# Altium footprint library smd-special.PCBLIB: 55 footprints (part 3 of 4)
Each footprint in its own frame and in the unit in brackets; x right, y up, seen from the top. Pads: shape width x height; smd on the part's side, far side on the other; paste and mask are expansions set on the pad; w line width, h text height; cw(c..) or ccw(c..) is an arc to the next point about the centre after c.
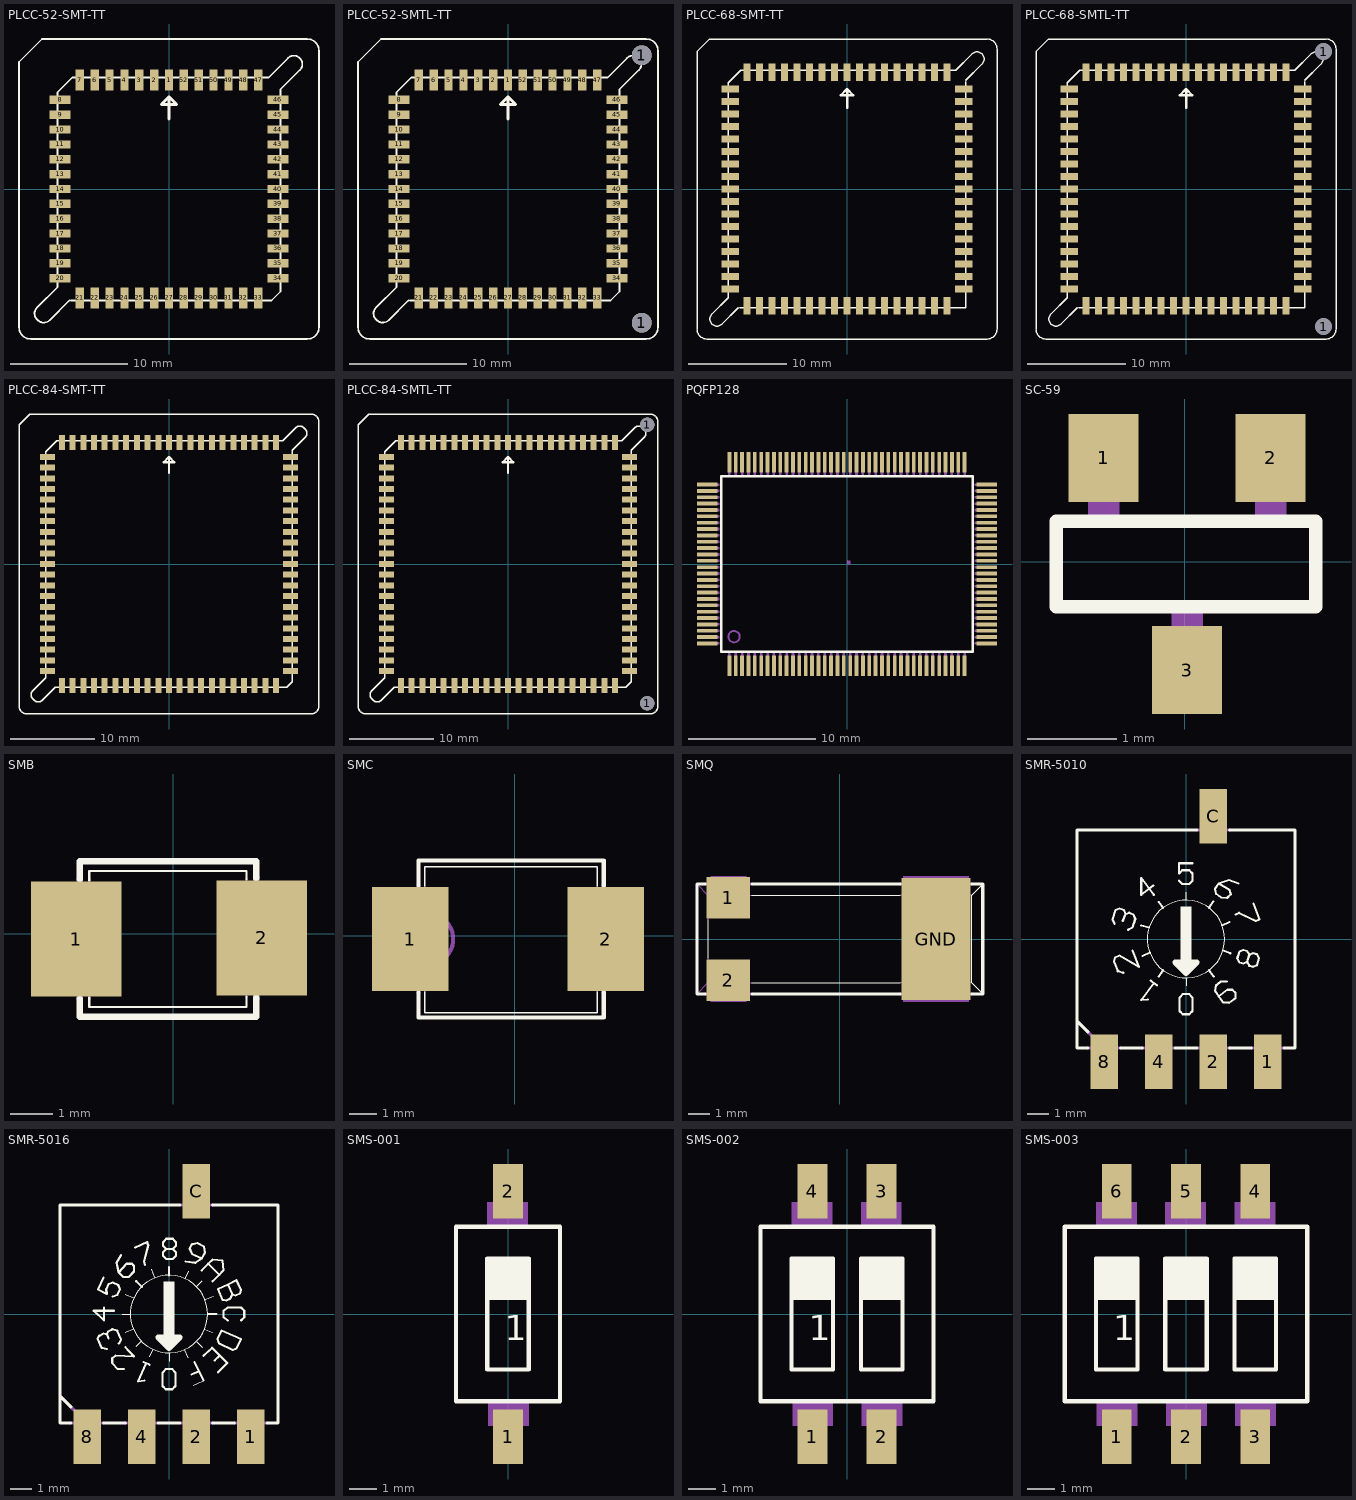
[diagram p2: the footprints below, top view; thin cyan lines are the x and y axes]

## PLCC-52-SMT-TT [mil]
pads (52):
  rect 27.95x70.08 smd: 1(0,366.54) 2(-50,366.54) 3(-100,366.54) 4(-150,366.54) 5(-200,366.54) 6(-250,366.54) 7(-300,366.54) 21(-300,-366.54) 22(-250,-366.54) 23(-200,-366.54) 24(-150,-366.54) 25(-100,-366.54) 26(-50,-366.54) 27(0,-366.54) 28(50,-366.54) 29(100,-366.54) 30(150,-366.54) 31(200,-366.54) 32(250,-366.54) 33(300,-366.54) 47(300,366.54) 48(250,366.54) 49(200,366.54) 50(150,366.54) 51(100,366.54) 52(50,366.54)
  rect 70.08x27.95 smd: 8(-366.54,300) 9(-366.54,250) 10(-366.54,200) 11(-366.54,150) 12(-366.54,100) 13(-366.54,50) 14(-366.54,0) 15(-366.54,-50) 16(-366.54,-100) 17(-366.54,-150) 18(-366.54,-200) 19(-366.54,-250) 20(-366.54,-300) 34(366.54,-300) 35(366.54,-250) 36(366.54,-200) 37(366.54,-150) 38(366.54,-100) 39(366.54,-50) 40(366.54,0) 41(366.54,50) 42(366.54,100) 43(366.54,150) 44(366.54,200) 45(366.54,250) 46(366.54,300)
Top Overlay:
  lines w6: -335,-375 -401.63,-441.63 cw(c-421.11,-422.14) -439.42,-442.74 -443.15,-439.42 cw(c-424.83,-418.82) -444.33,-399.33 -375,-330 -375,325 -325,375 335,375 400.51,440.51 cw(c420,421.02) 439.49,440.51 440.51,439.49 cw(c421.02,420) 440.51,400.51 375,335 375,-345 345,-375 -330,-375 ; -504.69,-465.32 -504.69,427.44 -427.28,504.69 465.32,504.69 cw(c465.32,465.32) 504.69,465.32 504.69,-465.32 cw(c465.32,-465.32) 465.32,-504.69 -465.32,-504.69 cw(c-465.32,-465.32) -504.69,-465.32
  lines w10: 0,235 0,310 ; 0,310 25,285 -25,285 0,310

## PLCC-52-SMTL-TT [mil]
pads (54):
  rect 27.95x70.08 smd: 1(0,366.54) 2(-50,366.54) 3(-100,366.54) 4(-150,366.54) 5(-200,366.54) 6(-250,366.54) 7(-300,366.54) 21(-300,-366.54) 22(-250,-366.54) 23(-200,-366.54) 24(-150,-366.54) 25(-100,-366.54) 26(-50,-366.54) 27(0,-366.54) 28(50,-366.54) 29(100,-366.54) 30(150,-366.54) 31(200,-366.54) 32(250,-366.54) 33(300,-366.54) 47(300,366.54) 48(250,366.54) 49(200,366.54) 50(150,366.54) 51(100,366.54) 52(50,366.54)
  round 66.93 hole 66.93: 1(450,-450) 1(450,450)
  rect 70.08x27.95 smd: 8(-366.54,300) 9(-366.54,250) 10(-366.54,200) 11(-366.54,150) 12(-366.54,100) 13(-366.54,50) 14(-366.54,0) 15(-366.54,-50) 16(-366.54,-100) 17(-366.54,-150) 18(-366.54,-200) 19(-366.54,-250) 20(-366.54,-300) 34(366.54,-300) 35(366.54,-250) 36(366.54,-200) 37(366.54,-150) 38(366.54,-100) 39(366.54,-50) 40(366.54,0) 41(366.54,50) 42(366.54,100) 43(366.54,150) 44(366.54,200) 45(366.54,250) 46(366.54,300)
Top Overlay:
  lines w6: -335,-375 -401.63,-441.63 cw(c-421.12,-422.09) -439.42,-442.74 -443.15,-439.42 cw(c-424.83,-418.82) -444.33,-399.33 -375,-330 -375,325 -325,375 335,375 400.51,440.51 cw(c420,421.02) 439.49,440.51 440.51,439.49 cw(c421.02,420) 440.51,400.51 375,335 375,-345 345,-375 -330,-375 ; -504.69,-465.32 -504.69,427.44 -427.28,504.69 465.32,504.69 cw(c465.32,465.32) 504.69,465.32 504.69,-465.32 cw(c465.32,-465.32) 465.32,-504.69 -465.32,-504.69 cw(c-465.32,-465.32) -504.69,-465.32
  lines w10: 0,235 0,310 ; 0,310 25,285 -25,285 0,310

## PLCC-68-SMT-TT [mil]
pads (68):
  rect 27.95x70.08 smd: 1(0,467.13) 2(-50,467.13) 3(-100,467.13) 4(-150,467.13) 5(-200,467.13) 6(-250,467.13) 7(-300,467.13) 8(-350,467.13) 9(-400,467.13) 27(-400,-467.13) 28(-350,-467.13) 29(-300,-467.13) 30(-250,-467.13) 31(-200,-467.13) 32(-150,-467.13) 33(-100,-467.13) 34(-50,-467.13) 35(0,-467.13) 36(50,-467.13) 37(100,-467.13) 38(150,-467.13) 39(200,-467.13) 40(250,-467.13) 41(300,-467.13) 42(350,-467.13) 43(400,-467.13) 61(400,467.13) 62(350,467.13) 63(300,467.13) 64(250,467.13) 65(200,467.13) 66(150,467.13) 67(100,467.13) 68(50,467.13)
  rect 70.08x27.95 smd: 10(-467.13,400) 11(-467.13,350) 12(-467.13,300) 13(-467.13,250) 14(-467.13,200) 15(-467.13,150) 16(-467.13,100) 17(-467.13,50) 18(-467.13,0) 19(-467.13,-50) 20(-467.13,-100) 21(-467.13,-150) 22(-467.13,-200) 23(-467.13,-250) 24(-467.13,-300) 25(-467.13,-350) 26(-467.13,-400) 44(467.13,-400) 45(467.13,-350) 46(467.13,-300) 47(467.13,-250) 48(467.13,-200) 49(467.13,-150) 50(467.13,-100) 51(467.13,-50) 52(467.13,0) 53(467.13,50) 54(467.13,100) 55(467.13,150) 56(467.13,200) 57(467.13,250) 58(467.13,300) 59(467.13,350) 60(467.13,400)
Top Overlay:
  lines w6: -435,-475 -500.51,-540.51 cw(c-520,-521.02) -539.49,-540.51 -540.51,-539.49 cw(c-521.02,-520) -540.51,-500.51 -475,-435 -475,425 -425,475 435,475 500.51,540.51 cw(c520,521.02) 539.49,540.51 540.51,539.49 cw(c521.02,520) 540.51,500.51 475,435 ; -430,-475 475,-475 475,430 ; -600,-560.63 ccw(c-560.63,-560.63) -560.63,-600 560.63,-600 ccw(c560.63,-560.63) 600,-560.63 600,560.63 ccw(c560.63,560.63) 560.63,600 -550,600 -600,550 -600,-560.63
  lines w10: 0,325 0,400 ; 0,400 25,375 -25,375 0,400

## PLCC-68-SMTL-TT [mil]
pads (70):
  rect 27.95x70.08 smd: 1(0,467.13) 2(-50,467.13) 3(-100,467.13) 4(-150,467.13) 5(-200,467.13) 6(-250,467.13) 7(-300,467.13) 8(-350,467.13) 9(-400,467.13) 27(-400,-467.13) 28(-350,-467.13) 29(-300,-467.13) 30(-250,-467.13) 31(-200,-467.13) 32(-150,-467.13) 33(-100,-467.13) 34(-50,-467.13) 35(0,-467.13) 36(50,-467.13) 37(100,-467.13) 38(150,-467.13) 39(200,-467.13) 40(250,-467.13) 41(300,-467.13) 42(350,-467.13) 43(400,-467.13) 61(400,467.13) 62(350,467.13) 63(300,467.13) 64(250,467.13) 65(200,467.13) 66(150,467.13) 67(100,467.13) 68(50,467.13)
  round 66.93 hole 66.93: 1(550,-550) 1(550,550)
  rect 70.08x27.95 smd: 10(-467.13,400) 11(-467.13,350) 12(-467.13,300) 13(-467.13,250) 14(-467.13,200) 15(-467.13,150) 16(-467.13,100) 17(-467.13,50) 18(-467.13,0) 19(-467.13,-50) 20(-467.13,-100) 21(-467.13,-150) 22(-467.13,-200) 23(-467.13,-250) 24(-467.13,-300) 25(-467.13,-350) 26(-467.13,-400) 44(467.13,-400) 45(467.13,-350) 46(467.13,-300) 47(467.13,-250) 48(467.13,-200) 49(467.13,-150) 50(467.13,-100) 51(467.13,-50) 52(467.13,0) 53(467.13,50) 54(467.13,100) 55(467.13,150) 56(467.13,200) 57(467.13,250) 58(467.13,300) 59(467.13,350) 60(467.13,400)
Top Overlay:
  lines w6: -435,-475 -500.51,-540.51 cw(c-520,-521.02) -539.49,-540.51 -540.51,-539.49 cw(c-521.02,-520) -540.51,-500.51 -475,-435 -475,425 -425,475 435,475 500.51,540.51 cw(c520,521.02) 539.49,540.51 540.51,539.49 cw(c521.02,520) 540.51,500.51 475,435 ; -430,-475 475,-475 475,430 ; -600,-560.63 ccw(c-560.63,-560.63) -560.63,-600 560.63,-600 ccw(c560.63,-560.63) 600,-560.63 600,560.63 ccw(c560.63,560.63) 560.63,600 -550,600 -600,550 -600,-560.63
  lines w10: 0,325 0,400 ; 0,400 25,375 -25,375 0,400

## PLCC-84-SMT-TT [mil]
pads (84):
  rect 27.95x70.08 smd: 1(0,566.93) 2(-50,566.93) 3(-100,566.93) 4(-150,566.93) 5(-200,566.93) 6(-250,566.93) 7(-300,566.93) 8(-350,566.93) 9(-400,566.93) 10(-450,566.93) 11(-500,566.93) 33(-500,-566.93) 34(-450,-566.93) 35(-400,-566.93) 36(-350,-566.93) 37(-300,-566.93) 38(-250,-566.93) 39(-200,-566.93) 40(-150,-566.93) 41(-100,-566.93) 42(-50,-566.93) 43(0,-566.93) 44(50,-566.93) 45(100,-566.93) 46(150,-566.93) 47(200,-566.93) 48(250,-566.93) 49(300,-566.93) 50(350,-566.93) 51(400,-566.93) 52(450,-566.93) 53(500,-566.93) 75(500,566.93) 76(450,566.93) 77(400,566.93) 78(350,566.93) 79(300,566.93) 80(250,566.93) 81(200,566.93) 82(150,566.93) 83(100,566.93) 84(50,566.93)
  rect 70.08x27.95 smd: 12(-566.93,500) 13(-566.93,450) 14(-566.93,400) 15(-566.93,350) 16(-566.93,300) 17(-566.93,250) 18(-566.93,200) 19(-566.93,150) 20(-566.93,100) 21(-566.93,50) 22(-566.93,0) 23(-566.93,-50) 24(-566.93,-100) 25(-566.93,-150) 26(-566.93,-200) 27(-566.93,-250) 28(-566.93,-300) 29(-566.93,-350) 30(-566.93,-400) 31(-566.93,-450) 32(-566.93,-500) 54(566.93,-500) 55(566.93,-450) 56(566.93,-400) 57(566.93,-350) 58(566.93,-300) 59(566.93,-250) 60(566.93,-200) 61(566.93,-150) 62(566.93,-100) 63(566.93,-50) 64(566.93,0) 65(566.93,50) 66(566.93,100) 67(566.93,150) 68(566.93,200) 69(566.93,250) 70(566.93,300) 71(566.93,350) 72(566.93,400) 73(566.93,450) 74(566.93,500)
Top Overlay:
  lines w6: -700,-660.63 ccw(c-660.63,-660.63) -660.63,-700 660.63,-700 ccw(c660.63,-660.63) 700,-660.63 700,660.63 ccw(c660.63,660.63) 660.63,700 -650,700 -700,650 -700,-660.63 ; -635.51,-629.49 cw(c-616.02,-610) -635.51,-590.51 -575,-530 -575,525 -525,575 530,575 590.51,635.51 cw(c610,616.02) 629.49,635.51 635.51,629.49 cw(c616.02,610) 635.51,590.51 575,530 575,-550 550,-575 -530,-575 -590.51,-635.51 cw(c-610,-616.02) -629.49,-635.51 -635.51,-629.49
  lines w10: 0,425 0,500 ; 0,500 25,475 -25,475 0,500

## PLCC-84-SMTL-TT [mil]
pads (86):
  rect 27.95x70.08 smd: 1(0,566.93) 2(-50,566.93) 3(-100,566.93) 4(-150,566.93) 5(-200,566.93) 6(-250,566.93) 7(-300,566.93) 8(-350,566.93) 9(-400,566.93) 10(-450,566.93) 11(-500,566.93) 33(-500,-566.93) 34(-450,-566.93) 35(-400,-566.93) 36(-350,-566.93) 37(-300,-566.93) 38(-250,-566.93) 39(-200,-566.93) 40(-150,-566.93) 41(-100,-566.93) 42(-50,-566.93) 43(0,-566.93) 44(50,-566.93) 45(100,-566.93) 46(150,-566.93) 47(200,-566.93) 48(250,-566.93) 49(300,-566.93) 50(350,-566.93) 51(400,-566.93) 52(450,-566.93) 53(500,-566.93) 75(500,566.93) 76(450,566.93) 77(400,566.93) 78(350,566.93) 79(300,566.93) 80(250,566.93) 81(200,566.93) 82(150,566.93) 83(100,566.93) 84(50,566.93)
  round 66.93 hole 66.93: 1(650,-650) 1(650,650)
  rect 70.08x27.95 smd: 12(-566.93,500) 13(-566.93,450) 14(-566.93,400) 15(-566.93,350) 16(-566.93,300) 17(-566.93,250) 18(-566.93,200) 19(-566.93,150) 20(-566.93,100) 21(-566.93,50) 22(-566.93,0) 23(-566.93,-50) 24(-566.93,-100) 25(-566.93,-150) 26(-566.93,-200) 27(-566.93,-250) 28(-566.93,-300) 29(-566.93,-350) 30(-566.93,-400) 31(-566.93,-450) 32(-566.93,-500) 54(566.93,-500) 55(566.93,-450) 56(566.93,-400) 57(566.93,-350) 58(566.93,-300) 59(566.93,-250) 60(566.93,-200) 61(566.93,-150) 62(566.93,-100) 63(566.93,-50) 64(566.93,0) 65(566.93,50) 66(566.93,100) 67(566.93,150) 68(566.93,200) 69(566.93,250) 70(566.93,300) 71(566.93,350) 72(566.93,400) 73(566.93,450) 74(566.93,500)
Top Overlay:
  lines w6: -700,-660.63 ccw(c-660.63,-660.63) -660.63,-700 660.63,-700 ccw(c660.63,-660.63) 700,-660.63 700,660.63 ccw(c660.63,660.63) 660.63,700 -650,700 -700,650 -700,-660.63 ; -635.51,-629.49 cw(c-616.02,-610) -635.51,-590.51 -575,-530 -575,525 -525,575 530,575 590.51,635.51 cw(c610,616.02) 629.49,635.51 635.51,629.49 cw(c616.02,610) 635.51,590.51 575,530 575,-550 550,-575 -530,-575 -590.51,-635.51 cw(c-610,-616.02) -629.49,-635.51 -635.51,-629.49
  lines w10: 0,425 0,500 ; 0,500 25,475 -25,475 0,500

## PQFP128 [mm]
pads (128):
  rect 0.3x1.6 smd: 1(-9.25,-8) 2(-8.75,-8) 3(-8.25,-8) 4(-7.75,-8) 5(-7.25,-8) 6(-6.75,-8) 7(-6.25,-8) 8(-5.75,-8) 9(-5.25,-8) 10(-4.75,-8) 11(-4.25,-8) 12(-3.75,-8) 13(-3.25,-8) 14(-2.75,-8) 15(-2.25,-8) 16(-1.75,-8) 17(-1.25,-8) 18(-0.75,-8) 19(-0.25,-8) 20(0.25,-8) 21(0.75,-8) 22(1.25,-8) 23(1.75,-8) 24(2.25,-8) 25(2.75,-8) 26(3.25,-8) 27(3.75,-8) 28(4.25,-8) 29(4.75,-8) 30(5.25,-8) 31(5.75,-8) 32(6.25,-8) 33(6.75,-8) 34(7.25,-8) 35(7.75,-8) 36(8.25,-8) 37(8.75,-8) 38(9.25,-8) 65(9.25,8) 66(8.75,8) 67(8.25,8) 68(7.75,8) 69(7.25,8) 70(6.75,8) 71(6.25,8) 72(5.75,8) 73(5.25,8) 74(4.75,8) 75(4.25,8) 76(3.75,8) 77(3.25,8) 78(2.75,8) 79(2.25,8) 80(1.75,8) 81(1.25,8) 82(0.75,8) 83(0.25,8) 84(-0.25,8) 85(-0.75,8) 86(-1.25,8) 87(-1.75,8) 88(-2.25,8) 89(-2.75,8) 90(-3.25,8) 91(-3.75,8) 92(-4.25,8) 93(-4.75,8) 94(-5.25,8) 95(-5.75,8) 96(-6.25,8) 97(-6.75,8) 98(-7.25,8) 99(-7.75,8) 100(-8.25,8) 101(-8.75,8) 102(-9.25,8)
  rect 1.6x0.3 smd: 39(11,-6.25) 40(11,-5.75) 41(11,-5.25) 42(11,-4.75) 43(11,-4.25) 44(11,-3.75) 45(11,-3.25) 46(11,-2.75) 47(11,-2.25) 48(11,-1.75) 49(11,-1.25) 50(11,-0.75) 51(11,-0.25) 52(11,0.25) 53(11,0.75) 54(11,1.25) 55(11,1.75) 56(11,2.25) 57(11,2.75) 58(11,3.25) 59(11,3.75) 60(11,4.25) 61(11,4.75) 62(11,5.25) 63(11,5.75) 64(11,6.25) 103(-11,6.25) 104(-11,5.75) 105(-11,5.25) 106(-11,4.75) 107(-11,4.25) 108(-11,3.75) 109(-11,3.25) 110(-11,2.75) 111(-11,2.25) 112(-11,1.75) 113(-11,1.25) 114(-11,0.75) 115(-11,0.25) 116(-11,-0.25) 117(-11,-0.75) 118(-11,-1.25) 119(-11,-1.75) 120(-11,-2.25) 121(-11,-2.75) 122(-11,-3.25) 123(-11,-3.75) 124(-11,-4.25) 125(-11,-4.75) 126(-11,-5.25) 127(-11,-5.75) 128(-11,-6.25)
Top Overlay:
  lines w0.203: -9.906,-6.909 9.906,-6.909 9.906,6.909 -9.906,6.909 -9.906,-6.909
Mechanical 16:
  circle w0.152: c-8.89,-5.715 r0.449
  rectangle: -9.352,-8.611 -9.148,-7.01
  rectangle: -8.852,-8.611 -8.648,-7.01
  rectangle: -8.352,-8.611 -8.148,-7.01
  rectangle: -7.852,-8.611 -7.648,-7.01
  rectangle: -7.352,-8.611 -7.148,-7.01
  rectangle: -6.852,-8.611 -6.648,-7.01
  rectangle: -6.352,-8.611 -6.148,-7.01
  rectangle: -5.852,-8.611 -5.648,-7.01
  rectangle: -5.352,-8.611 -5.148,-7.01
  rectangle: -4.852,-8.611 -4.648,-7.01
  rectangle: -4.352,-8.611 -4.148,-7.01
  rectangle: -3.852,-8.611 -3.648,-7.01
  rectangle: -3.352,-8.611 -3.148,-7.01
  rectangle: -2.852,-8.611 -2.648,-7.01
  rectangle: -2.352,-8.611 -2.148,-7.01
  rectangle: -1.852,-8.611 -1.648,-7.01
  rectangle: -1.352,-8.611 -1.148,-7.01
  rectangle: -0.852,-8.611 -0.648,-7.01
  rectangle: -0.352,-8.611 -0.148,-7.01
  rectangle: 0.148,-8.611 0.352,-7.01
  rectangle: 0.648,-8.611 0.852,-7.01
  rectangle: 1.148,-8.611 1.352,-7.01
  rectangle: 1.648,-8.611 1.852,-7.01
  rectangle: 2.148,-8.611 2.352,-7.01
  rectangle: 2.648,-8.611 2.852,-7.01
  rectangle: 3.148,-8.611 3.352,-7.01
  rectangle: 3.648,-8.611 3.852,-7.01
  rectangle: 4.148,-8.611 4.352,-7.01
  rectangle: 4.648,-8.611 4.852,-7.01
  rectangle: 5.148,-8.611 5.352,-7.01
  rectangle: 5.648,-8.611 5.852,-7.01
  rectangle: 6.148,-8.611 6.352,-7.01
  rectangle: 6.648,-8.611 6.852,-7.01
  rectangle: 7.148,-8.611 7.352,-7.01
  rectangle: 7.648,-8.611 7.852,-7.01
  rectangle: 8.148,-8.611 8.352,-7.01
  rectangle: 8.648,-8.611 8.852,-7.01
  rectangle: 9.148,-8.611 9.352,-7.01
  rectangle: 10.01,-6.352 11.611,-6.148
  rectangle: 10.01,-5.852 11.611,-5.648
  rectangle: 10.01,-5.352 11.611,-5.148
  rectangle: 10.01,-4.852 11.611,-4.648
  rectangle: 10.01,-4.352 11.611,-4.148
  rectangle: 10.01,-3.852 11.611,-3.648
  rectangle: 10.01,-3.352 11.611,-3.148
  rectangle: 10.01,-2.852 11.611,-2.648
  rectangle: 10.01,-2.352 11.611,-2.148
  rectangle: 10.01,-1.852 11.611,-1.648
  rectangle: 10.01,-1.352 11.611,-1.148
  rectangle: 10.01,-0.852 11.611,-0.648
  rectangle: 10.01,-0.352 11.611,-0.148
  rectangle: 10.01,0.148 11.611,0.352
  rectangle: 10.01,0.648 11.611,0.852
  rectangle: 10.01,1.148 11.611,1.352
  rectangle: 10.01,1.648 11.611,1.852
  rectangle: 10.01,2.148 11.611,2.352
  rectangle: 10.01,2.648 11.611,2.852
  rectangle: 10.01,3.148 11.611,3.352
  rectangle: 10.01,3.648 11.611,3.852
  rectangle: 10.01,4.148 11.611,4.352
  rectangle: 10.01,4.648 11.611,4.852
  rectangle: 10.01,5.148 11.611,5.352
  rectangle: 10.01,5.648 11.611,5.852
  rectangle: 10.01,6.148 11.611,6.352
  rectangle: 9.148,7.01 9.352,8.611
  rectangle: 8.648,7.01 8.852,8.611
  rectangle: 8.148,7.01 8.352,8.611
  rectangle: 7.648,7.01 7.852,8.611
  rectangle: 7.148,7.01 7.352,8.611
  rectangle: 6.648,7.01 6.852,8.611
  rectangle: 6.148,7.01 6.352,8.611
  rectangle: 5.648,7.01 5.852,8.611
  rectangle: 5.148,7.01 5.352,8.611
  rectangle: 4.648,7.01 4.852,8.611
  rectangle: 4.148,7.01 4.352,8.611
  rectangle: 3.648,7.01 3.852,8.611
  rectangle: 3.148,7.01 3.352,8.611
  rectangle: 2.648,7.01 2.852,8.611
  rectangle: 2.148,7.01 2.352,8.611
  rectangle: 1.648,7.01 1.852,8.611
  rectangle: 1.148,7.01 1.352,8.611
  rectangle: 0.648,7.01 0.852,8.611
  rectangle: 0.148,7.01 0.352,8.611
  rectangle: -0.352,7.01 -0.148,8.611
  rectangle: -0.852,7.01 -0.648,8.611
  rectangle: -1.352,7.01 -1.148,8.611
  rectangle: -1.852,7.01 -1.648,8.611
  rectangle: -2.352,7.01 -2.148,8.611
  rectangle: -2.852,7.01 -2.648,8.611
  rectangle: -3.352,7.01 -3.148,8.611
  rectangle: -3.852,7.01 -3.648,8.611
  rectangle: -4.352,7.01 -4.148,8.611
  rectangle: -4.852,7.01 -4.648,8.611
  rectangle: -5.352,7.01 -5.148,8.611
  rectangle: -5.852,7.01 -5.648,8.611
  rectangle: -6.352,7.01 -6.148,8.611
  rectangle: -6.852,7.01 -6.648,8.611
  rectangle: -7.352,7.01 -7.148,8.611
  rectangle: -7.852,7.01 -7.648,8.611
  rectangle: -8.352,7.01 -8.148,8.611
  rectangle: -8.852,7.01 -8.648,8.611
  rectangle: -9.352,7.01 -9.148,8.611
  rectangle: -11.611,6.148 -10.01,6.352
  rectangle: -11.611,5.648 -10.01,5.852
  rectangle: -11.611,5.148 -10.01,5.352
  rectangle: -11.611,4.648 -10.01,4.852
  rectangle: -11.611,4.148 -10.01,4.352
  rectangle: -11.611,3.648 -10.01,3.852
  rectangle: -11.611,3.148 -10.01,3.352
  rectangle: -11.611,2.648 -10.01,2.852
  rectangle: -11.611,2.148 -10.01,2.352
  rectangle: -11.611,1.648 -10.01,1.852
  rectangle: -11.611,1.148 -10.01,1.352
  rectangle: -11.611,0.648 -10.01,0.852
  rectangle: -11.611,0.148 -10.01,0.352
  rectangle: -11.611,-0.352 -10.01,-0.148
  rectangle: -11.611,-0.852 -10.01,-0.648
  rectangle: -11.611,-1.352 -10.01,-1.148
  rectangle: -11.611,-1.852 -10.01,-1.648
  rectangle: -11.611,-2.352 -10.01,-2.148
  rectangle: -11.611,-2.852 -10.01,-2.648
  rectangle: -11.611,-3.352 -10.01,-3.148
  rectangle: -11.611,-3.852 -10.01,-3.648
  rectangle: -11.611,-4.352 -10.01,-4.148
  rectangle: -11.611,-4.852 -10.01,-4.648
  rectangle: -11.611,-5.352 -10.01,-5.148
  rectangle: -11.611,-5.852 -10.01,-5.648
  rectangle: -11.611,-6.352 -10.01,-6.148
  region: 0,0 0.254,0 0.254,0.254 0,0.254

## SC-59 [mil]
pads (3):
  rect 31x39 smd: 1(-36,46) 2(38,46) 3(1,-48)
Top Overlay:
  lines w6: -57,-20 58,-20 58,18 -57,18 -57,-20
Mechanical 16:
  rectangle: 31,20 45,45
  rectangle: -6,-47 8,-22
  rectangle: -43,20 -29,45

## SMB [mil]
pads (2):
  rect 85x108 smd: 1(-91,-5) 2(83,-4)
Top Overlay:
  lines w2: -79,-60 -79,-69 69,-69 69,-59 ; -79,50 -79,59 69,59 69,51
  lines w6: -88,-61 -88,-78 78,-78 78,-60 ; -88,51 -88,68 78,68 78,52
Mechanical 16:
  rectangle: 80,-45 103,35
  rectangle: -113,-45 -90,35
  lines w2: -79,-62 -79,-31 ; -79,21 -79,52 ; 69,-60 69,52
  lines w6: -89,-32 ccw(c-89,-5) -89,22 ; -88,-61 -88,-32 ; -88,22 -88,51 ; 78,-61 78,53

## SMC [mil]
pads (2):
  rect 110x150 smd: 1(-150,-5) 2(131,-5)
Top Overlay:
  lines w2: -129,-81 -129,-111 119,-111 119,-81 ; -129,71 -129,99 119,99 119,71
  lines w6: -138,-82 -138,-118 128,-118 128,-82 ; -138,72 -138,108 128,108 128,72
Mechanical 16:
  rectangle: 130,-65 153,55
  rectangle: -163,-65 -140,55
  lines w2: -129,-81 -129,-42 ; -129,31 -129,71 ; 119,-81 119,71
  lines w6: -139.48,-38.8 ccw(c-125,-5) -139,29 ; -138,-82 -138,-39 ; -138,29 -138,72 ; 128,-82 128,72

## SMQ [mil]
pads (3):
  rect 79x75 smd: 1(-203,75) 2(-203,-75)
  rect 126x222 smd: GND(175,0)
Top Overlay:
  lines w2: -240,-35 -240,35 ; -160,-80 110,-80 ; -160,80 110,80 ; 260,-100 240,-80 240,80 260,100
  lines w6: -245,-100 -260,-100 -260,100 -245,100 ; -160,-100 110,-100 ; -160,100 110,100 ; 240,-100 260,-100 260,100 240,100
Mechanical 16:
  rectangle: 115,100 235,115
  rectangle: 115,-115 235,-100
  rectangle: -235,-115 -170,-100
  rectangle: -235,100 -170,115
  lines w2: -260,-100 -240,-80 ; -260,100 -240,80 ; -240,-35 -240,-80 ; -240,35 -240,80 ; -160,-80 -240,-80 ; -160,80 -240,80 ; 110,-80 240,-80 ; 110,80 240,80
  lines w6: -245,-100 -160,-100 ; -245,100 -160,100 ; 110,-100 240,-100 ; 110,100 240,100

## SMR-5010 [mil]
pads (5):
  rect 50x100 smd: 1(150,-225) 2(50,-225) 4(-50,-225) 8(-150,-225) C(50,225)
Top Overlay:
  circle w2: c0,0 r71
  rectangle: -10,-40 10,60
  lines w2: 0,-86 0,-72 ; 0,71 0,86
  lines w4: -131,28 -135,36 -129,53 -122,56 -114,53 -111,46 ; -116,33 -111,46 ; -115,-62 -125,-59 -132,-41 -130,-34 -122,-30 -86,-51 -98,-21 ; -106,17 -98,21 -93,37 -96,45 -104,48 -111,46 ; -82,25 -68,21 ; -80,-31 -66,-25 ; -70,-111 -82,-112 -59,-81 ; -65,-76 -59,-81 ; -60,98 -82,81 -82,112 -59,81 ; -53,-85 -59,-81 ; -50,-69 -42,-57 ; -50,68 -42,57 ; -13,107 -7,101 6,101 12,107 12,120 6,126 -7,126 -13,120 -13,139 12,139 ; 42,-57 51,-69 ; 42,57 50,69 ; 66,25 80,31 ; 68,-21 81,-26 ; 75,-78 64,-78 55,-85 53,-95 60,-105 ; 91,45 97,48 128,33 135,36 124,65 ; 96,102 79,108 60,102 ; 60,-105 76,-93 85,-93 91,-99 91,-108 79,-117 68,-116 60,-105 ; 60,102 80,90 82,82 75,75 65,76 55,83 53,92 60,102 ; 112,-42 116,-29 ; 112,-42 105,-45 98,-43 94,-36 98,-23 105,-20 112,-22 116,-29 ; 112,-42 116,-49 123,-51 130,-48 134,-35 130,-28 123,-26 116,-29 ; -12,-132 -12,-108 -6,-101 6,-101 12,-108 12,-132 6,-138 -6,-138 -12,-132
  lines w6: -180,-200 -200,-200 -200,-150 ; -180,-170 -200,-150 ; -120,-200 -80,-200 ; -20,-200 20,-200 ; 20,200 -200,200 -200,-150 ; 80,-200 120,-200 ; 80,200 200,200 200,-200 180,-200
  lines w10: -10,-48 10,-48 ; 0,-58 0,-53 ; -20,-43 0,-63 20,-43 -20,-43
Mechanical 16:
  lines w6: -180,-200 -150,-200 ; -180,-170 -150,-200 ; -120,-200 -150,-200 ; -80,-200 -20,-200 ; 20,-200 80,-200 ; 20,200 80,200 ; 120,-200 180,-200

## SMR-5016 [mil]
pads (5):
  rect 50x100 smd: 1(150,-225) 2(50,-225) 4(-50,-225) 8(-150,-225) C(50,225)
Top Overlay:
  drawing of 151 lines, arcs and shapes, not listed
Mechanical 16:
  lines w6: -180,-200 -150,-200 ; -180,-170 -150,-200 ; -120,-200 -150,-200 ; -80,-200 -20,-200 ; 20,-200 80,-200 ; 20,200 80,200 ; 120,-200 180,-200

## SMS-001 [mil]
pads (2):
  rect 43x79 smd: 1(0,-177) 2(0,177)
Top Overlay:
  rectangle: -30,20 30,80
  lines w6: -75,-126 75,-126 75,126 -75,126 -75,-126 ; -30,-80 30,-80 30,80 -30,80 -30,-80
  text "1" at -5,-50 h62
Mechanical 16:
  rectangle: -29,-162 30,-126
  rectangle: -12,-204 12,-162
  rectangle: -30,126 29,162
  rectangle: -12,162 12,204

## SMS-002 [mil]
pads (4):
  rect 43x79 smd: 1(-50,-177) 2(50,-177) 3(50,177) 4(-50,177)
Top Overlay:
  rectangle: -80,20 -20,80
  rectangle: 20,20 80,80
  lines w6: -125,-126 125,-126 125,126 -125,126 -125,-126 ; -80,-80 -20,-80 -20,80 -80,80 -80,-80 ; 20,-80 80,-80 80,80 20,80 20,-80
  text "1" at -55,-50 h62
Mechanical 16:
  rectangle: -79,-162 -20,-126
  rectangle: -62,-204 -38,-162
  rectangle: 21,-162 80,-126
  rectangle: 38,-204 62,-162
  rectangle: -80,126 -21,162
  rectangle: -62,162 -38,204
  rectangle: 20,126 79,162
  rectangle: 38,162 62,204

## SMS-003 [mil]
pads (6):
  rect 43x79 smd: 1(-100,-177) 2(0,-177) 3(100,-177) 4(100,177) 5(0,177) 6(-100,177)
Top Overlay:
  rectangle: -130,20 -70,80
  rectangle: -30,20 30,80
  rectangle: 70,20 130,80
  lines w6: -175,-126 175,-126 175,126 -175,126 -175,-126 ; -130,-80 -70,-80 -70,80 -130,80 -130,-80 ; -30,-80 30,-80 30,80 -30,80 -30,-80 ; 70,-80 130,-80 130,80 70,80 70,-80
  text "1" at -105,-50 h62
Mechanical 16:
  rectangle: -129,-162 -70,-126
  rectangle: -112,-204 -88,-162
  rectangle: -29,-162 30,-126
  rectangle: -12,-204 12,-162
  rectangle: 71,-162 130,-126
  rectangle: 88,-204 112,-162
  rectangle: -130,126 -71,162
  rectangle: -112,162 -88,204
  rectangle: -30,126 29,162
  rectangle: -12,162 12,204
  rectangle: 70,126 129,162
  rectangle: 88,162 112,204